# EAGLE library part WE-LAN749023020 (library Wuerth_Elektronik_eiSos_ v6.1)
LAN-Transformer WE-LAN 16Pin - Compliant with IEEE 802.3 standards - SMD -- Ethernet -- Power over Ethernet -- 1 Gigabit Ethernet -- Compliant with most IC's for ethernet applications like Intel, AMD, Globespan and Realtek
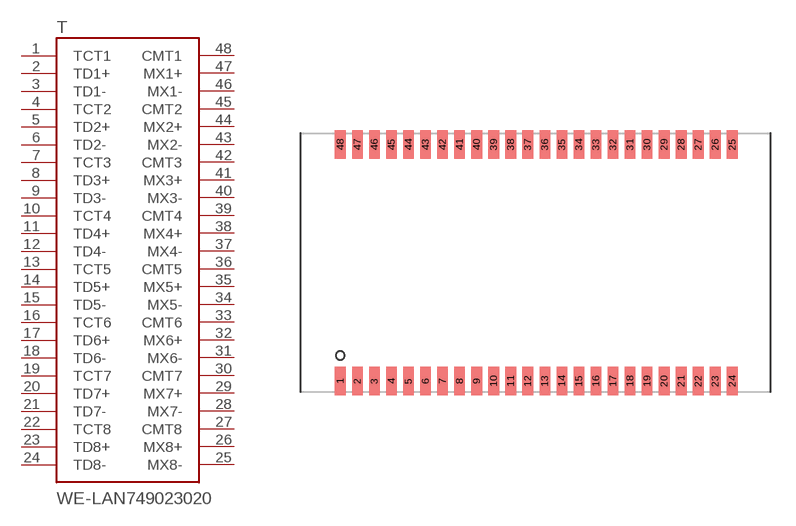
[diagram p13: symbol with the pads of WE-LAN_749013040; footprint WE-LAN_749013040]

Designator prefix T

## WE-LAN749023020  [WE-LAN_749013040]
1  TCT1  pas
2  TD1+  pas
3  TD1-  pas
4  TCT2  pas
5  TD2+  pas
6  TD2-  pas
7  TCT3  pas
8  TD3+  pas
9  TD3-  pas
10  TCT4  pas
11  TD4+  pas
12  TD4-  pas
13  TCT5  pas
14  TD5+  pas
15  TD5-  pas
16  TCT6  pas
17  TD6+  pas
18  TD6-  pas
19  TCT7  pas
20  TD7+  pas
21  TD7-  pas
22  TCT8  pas
23  TD8+  pas
24  TD8-  pas
25  MX8-  pas
26  MX8+  pas
27  CMT8  pas
28  MX7-  pas
29  MX7+  pas
30  CMT7  pas
31  MX6-  pas
32  MX6+  pas
33  CMT6  pas
34  MX5-  pas
35  MX5+  pas
36  CMT5  pas
37  MX4-  pas
38  MX4+  pas
39  CMT4  pas
40  MX3-  pas
41  MX3+  pas
42  CMT3  pas
43  MX2-  pas
44  MX2+  pas
45  CMT2  pas
46  MX1-  pas
47  MX1+  pas
48  CMT1  pas

## Footprint WE-LAN_749013040 (pad centres in mm)
LAN- Transformer
smd 0.64 x 1.72: 1 -11.68,-7.08; 2 -10.66,-7.08; 3 -9.64,-7.08; 4 -8.62,-7.08; 5 -7.6,-7.08; 6 -6.58,-7.08; 7 -5.56,-7.08; 8 -4.54,-7.08; 9 -3.52,-7.08; 10 -2.5,-7.08; 11 -1.48,-7.08; 12 -0.46,-7.08; 13 0.56,-7.08; 14 1.58,-7.08; 15 2.6,-7.08; 16 3.62,-7.08; 17 4.64,-7.08; 18 5.66,-7.08; 19 6.68,-7.08; 20 7.7,-7.08; 21 8.72,-7.08; 22 9.74,-7.08; 23 10.76,-7.08; 24 11.78,-7.08; 25 11.78,7.08; 26 10.76,7.08; 27 9.74,7.08; 28 8.72,7.08; 29 7.7,7.08; 30 6.68,7.08; 31 5.66,7.08; 32 4.64,7.08; 33 3.62,7.08; 34 2.6,7.08; 35 1.58,7.08; 36 0.56,7.08; 37 -0.46,7.08; 38 -1.48,7.08; 39 -2.5,7.08; 40 -3.52,7.08; 41 -4.54,7.08; 42 -5.56,7.08; 43 -6.58,7.08; 44 -7.6,7.08; 45 -8.62,7.08; 46 -9.64,7.08; 47 -10.66,7.08; 48 -11.68,7.08